# Altium footprint library PCB - LEADED - SOT - DIODES INC SOT-89.PCBLIB: 1 footprints
Each footprint in its own frame and in the unit in brackets; x right, y up, seen from the top. Pads: shape width x height; smd on the part's side, far side on the other; paste and mask are expansions set on the pad; w line width, h text height; cw(c..) or ccw(c..) is an arc to the next point about the centre after c.
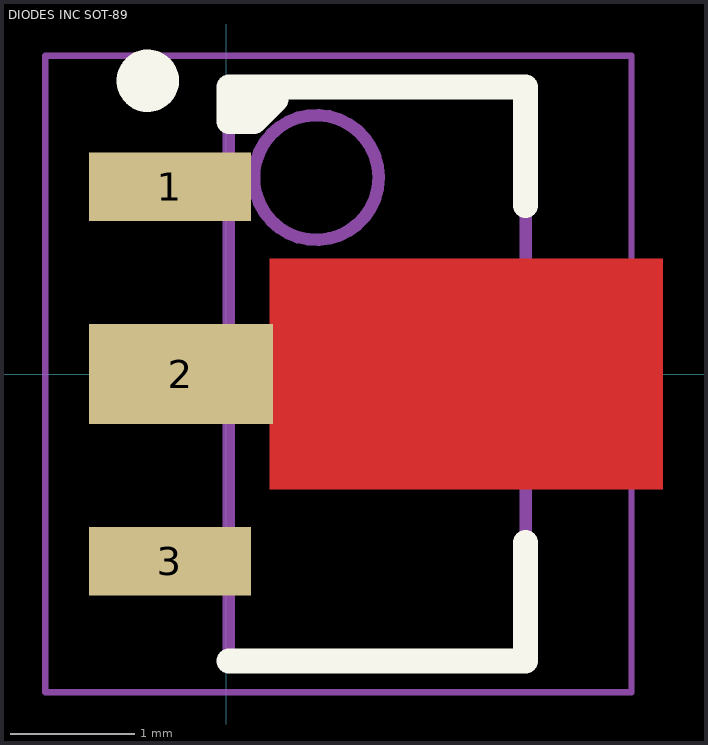
[diagram p0: the footprint, top view; thin cyan lines are the x and y axes]

## DIODES INC SOT-89 [mm] "SOT89, 3-Leads, Body 4.50x2.50mm, Pitch 1.50mm, Lead Span 3.3mm, IPC Medium Density"
height 1.6
pads (3):
  rect 1.3x0.55 smd: 1(-0.45,1.5) 3(-0.45,-1.5)
  rect 1.475x0.8 smd: 2(-0.362,0)
Top Layer:
  region: 0.35,0.925 3.5,0.925 3.5,-0.925 0.35,-0.925
Top Overlay:
  circle w0.25: c-0.627,2.35 r0.125
  region: 0.022,2.3 0.022,2.023 0.222,2.023 0.4,2.2
  lines w0.2: 0.022,-2.3 2.4,-2.3 2.4,-1.35 ; 0.4,2.2 0.222,2.023 0.022,2.023 0.022,2.3 2.4,2.3 2.4,1.35
Mechanical 13:
  circle w0.1: c0.722,1.575 r0.5
  lines w0.1: 0.022,-2.3 0.022,2.3 2.4,2.3 2.4,-2.3 0.022,-2.3
Mechanical 15:
  lines w0.05: -1.45,-2.55 -1.45,2.55 3.25,2.55 3.25,-2.55 -1.45,-2.55
Mechanical 2 (Mech9):
  lines w0.1: 0.823,0 1.823,0 ; 1.322,-0.5 1.322,0.5
3D body "SOT-89.STEP": height 1.5, standoff 0, extent -0.875,-2.25 3.275,2.25